# Altium footprint library 61201021621.PcbLib: 1 footprints
Each footprint in its own frame and in the unit in brackets; x right, y up, seen from the top. Pads: shape width x height; smd on the part's side, far side on the other; paste and mask are expansions set on the pad; w line width, h text height; cw(c..) or ccw(c..) is an arc to the next point about the centre after c.
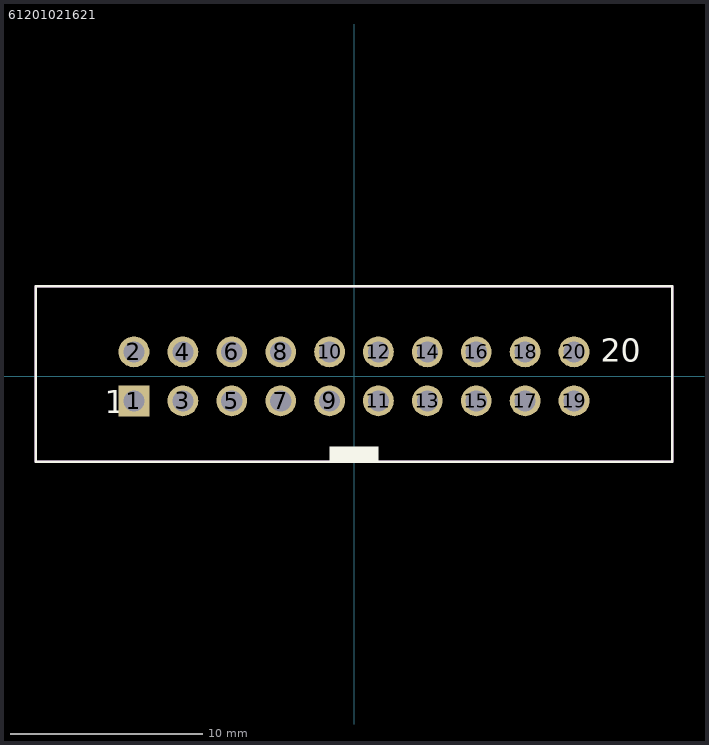
[diagram p0: the footprint, top view; thin cyan lines are the x and y axes]

## 61201021621 [mm] "pitch 2.54mm 2x10 pins, straight, gold plating"
height 9.1
pads (20):
  rect 1.6x1.6 hole 1.1: 1(-11.43,-1.27)
  round 1.6 hole 1.1: 2(-11.43,1.27) 3(-8.89,-1.27) 4(-8.89,1.27) 5(-6.35,-1.27) 6(-6.35,1.27) 7(-3.81,-1.27) 8(-3.81,1.27) 9(-1.27,-1.27) 10(-1.27,1.27) 11(1.27,-1.27) 12(1.27,1.27) 13(3.81,-1.27) 14(3.81,1.27) 15(6.35,-1.27) 16(6.35,1.27) 17(8.89,-1.27) 18(8.89,1.27) 19(11.43,-1.27) 20(11.43,1.27)
Top Overlay:
  rectangle: -1.27,-4.425 1.27,-3.64
  lines w0.127: -16.53,-4.425 16.53,-4.425 16.53,4.675 -16.53,4.675 -16.53,-4.425
  text "1" at -12.954,-1.905 h1.2
  text "20" at 12.827,0.762 h1.2
Mechanical 13:
  lines w0.127: -16.53,-4.425 -16.53,4.675 16.53,4.675 16.53,-4.425 -16.53,-4.425
Mechanical 15:
  lines w0.127: -16.53,-4.425 -16.53,4.675 16.53,4.675 16.53,-4.425 -16.53,-4.425
3D body: height 9.13, standoff -2.98, extent -16.53,-4.425 16.53,4.675